# Altium integrated library TI Power Management Linear Regulator Single Channel LDO (400-7500mA).IntLib: 1408 symbols (part 24 of 60)
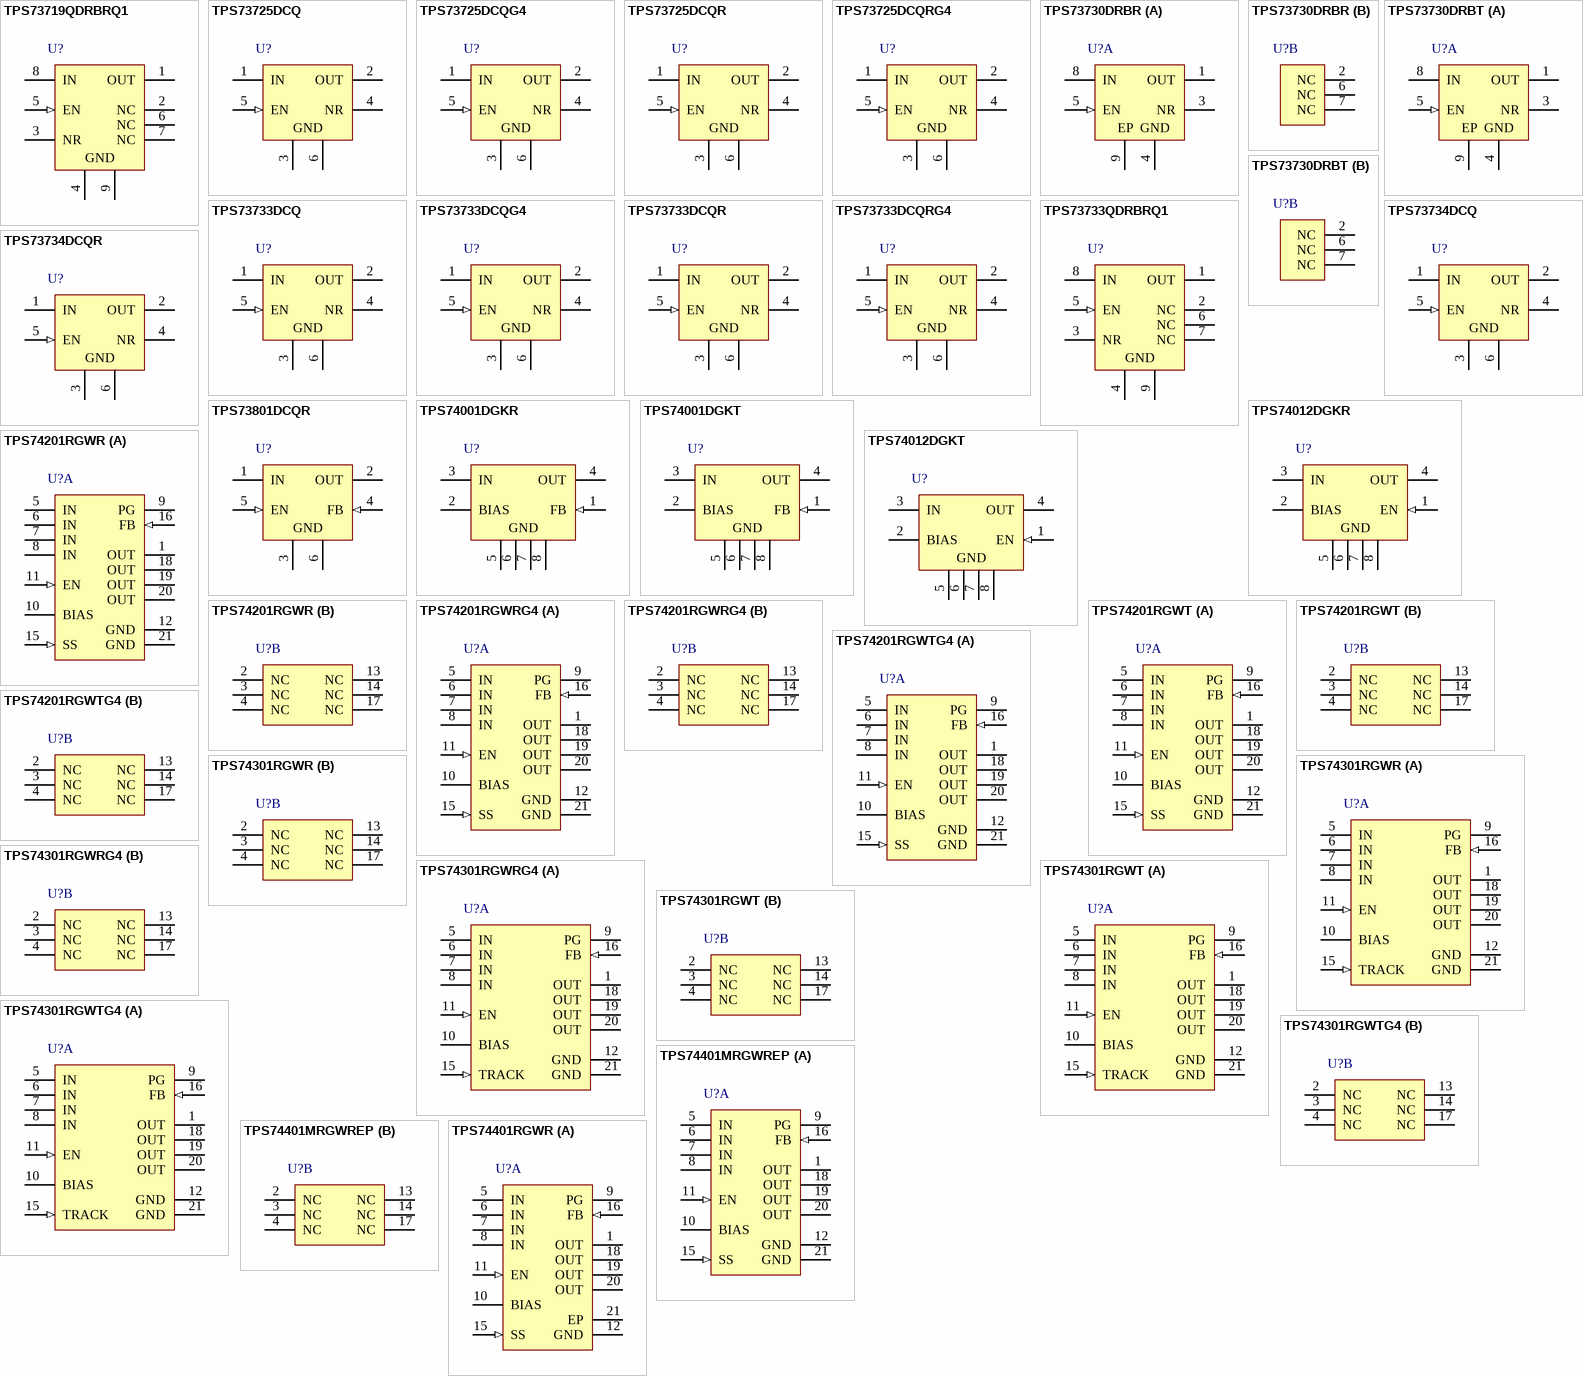
[diagram p73: symbols TPS73719QDRBRQ1 to TPS74401RGWR]

## TPS74301RGWRG4
designator U?
Single Output LDO, 1.5 A, Adjustable 0.8 to 3.6 V Output, 0.8 to 5.5 V Input, with Programmable Powerup Sequencing, 20-pin VQFN (RGW), -40 to 85 degC, Green (RoHS & no Sb/Br); Manufacturer: Texas Instruments; PartNumber: TPS74301RGWRG4; Accuracy(%): 1; Iout(Max)(A): 1.5; Iq(Typ)(mA): 3; Power Good: TRUE; Rating: Catalog; SubFamily: Single Channel LDO; Vdo(Typ)(mV): 55; Vin(Max)(V): 5.5; Vin(Min)(V): 0.8; Vout Adj(Max)(V): 3.6; DatasheetVersion: SBVS065K; PackageReference: RGW20-3150X3150TP; PackageDescription: 20-Pin Plastic Quad Flat No-Pin, 5 x 5 mm Body, 0.65 mm Pitch, 3.15 x 3.15 mm Exposed Pad; Supplier 1: Digi-Key; Supplier Part Number 1: TPS74301RGWRG4-ND; Supplier 2: Newark; Supplier Part Number 2: 04M0271; Supplier 3: Mouser; Supplier Part Number 3: 595-TPS74301RGWRG4; Eco-Plan: Green (RoHS & no Sb/Br); Vout Adj(Min)(V): 0.8; Mounting Technology: Surface Mount; Code_JEDEC: MO-220; ComponentLink1Description: Manufacturer URL; ComponentLink1URL: http://www.ti.com/; ComponentLink2Description: Datasheet; ComponentLink2URL: http://www.ti.com/general/docs/lit/getliterature.tsp?genericPartNumber=TPS74301&fileType=pdf; ComponentLink3Description: Package Specification; ComponentLink3URL: http://www.ti.com/litv/pdf/mpqf122b; ComponentLink4Description: URL Link1; ComponentLink4URL: Samples URL:http://www.ti.com/product/tps74301#samples
footprint TI-RGW20-3150X3150TP_V (QFN, 20-Leads, Body 5x5mm, Pitch 0.65mm, Thermal Pad 3.15x3.15mm)
part A pins: 1 OUT (power) "Regulated output voltage. No capacitor is required on this pin for stability.", 5 IN (power) "Unregulated input to the device.", 6 IN (power) "Unregulated input to the device.", 7 IN (power) "Unregulated input to the device.", 8 IN (power) "Unregulated input to the device.", 9 PG (hiz) "Power-Good (PG) is an open-drain, active-high output that indicates the status of VOUT. When VOUT exceeds the PG trip threshold, the PG pin goes into a high-impedance state. When VOUT is below this threshold the pin is (See Datasheet)", 10 BIAS (power) "Bias input voltage for error amplifier, reference, and internal control circuits.", 11 EN (in) "Enable pin. Driving this pin high enables the regulator. Driving this pin low puts the regulator into shutdown mode. This pin must not be left floating.", 12 GND (power) "Ground", 15 TRACK (in) "Tracking pin. Connect this pin to the center tap of a resistor divider off of an external supply to program the device to track an external supply.", 16 FB (in) "This pin is the feedback connection to the center tap of an external resistor divider network that sets the output voltage. This pin must not be left floating.", 18 OUT (power) "Regulated output voltage. No capacitor is required on this pin for stability.", 19 OUT (power) "Regulated output voltage. No capacitor is required on this pin for stability.", 20 OUT (power) "Regulated output voltage. No capacitor is required on this pin for stability.", 21 GND (power) "Should be soldered to the ground plane for increased thermal performance."
part B pins: 2 NC "No connection. This pin can be left floating or connected to GND to allow better thermal contact to the top-side plane.", 3 NC "No connection. This pin can be left floating or connected to GND to allow better thermal contact to the top-side plane.", 4 NC "No connection. This pin can be left floating or connected to GND to allow better thermal contact to the top-side plane.", 13 NC "No connection. This pin can be left floating or connected to GND to allow better thermal contact to the top-side plane.", 14 NC "No connection. This pin can be left floating or connected to GND to allow better thermal contact to the top-side plane.", 17 NC "No connection. This pin can be left floating or connected to GND to allow better thermal contact to the top-side plane."

## TPS74301RGWT
designator U?
Single Output LDO, 1.5 A, Adjustable 0.8 to 3.6 V Output, 0.8 to 5.5 V Input, with Programmable Powerup Sequencing, 20-pin VQFN (RGW), -40 to 85 degC, Green (RoHS & no Sb/Br); Manufacturer: Texas Instruments; PartNumber: TPS74301RGWT; Accuracy(%): 1; Iout(Max)(A): 1.5; Iq(Typ)(mA): 3; Power Good: TRUE; Rating: Catalog; SubFamily: Single Channel LDO; Vdo(Typ)(mV): 55; Vin(Max)(V): 5.5; Vin(Min)(V): 0.8; Vout Adj(Max)(V): 3.6; DatasheetVersion: SBVS065K; PackageReference: RGW20-3150X3150TP; PackageDescription: 20-Pin Plastic Quad Flat No-Pin, 5 x 5 mm Body, 0.65 mm Pitch, 3.15 x 3.15 mm Exposed Pad; Supplier 1: Digi-Key; Supplier Part Number 1: 296-19892-2-ND; Supplier 2: Digi-Key; Supplier Part Number 2: 296-19892-1-ND; Supplier 3: Digi-Key; Supplier Part Number 3: 296-19892-6-ND; Supplier 4: Farnell; Supplier Part Number 4: 1564915; Supplier 5: Newark; Supplier Part Number 5: 03M1118; Supplier 6: Mouser; Supplier Part Number 6: 595-TPS74301RGWT; Eco-Plan: Green (RoHS & no Sb/Br); Vout Adj(Min)(V): 0.8; Mounting Technology: Surface Mount; Code_JEDEC: MO-220; ComponentLink1Description: Manufacturer URL; ComponentLink1URL: http://www.ti.com/; ComponentLink2Description: Datasheet; ComponentLink2URL: http://www.ti.com/general/docs/lit/getliterature.tsp?genericPartNumber=TPS74301&fileType=pdf; ComponentLink3Description: Package Specification; ComponentLink3URL: http://www.ti.com/litv/pdf/mpqf122b; ComponentLink4Description: URL Link1; ComponentLink4URL: Samples URL:http://www.ti.com/product/tps74301#samples
footprint TI-RGW20-3150X3150TP_V (QFN, 20-Leads, Body 5x5mm, Pitch 0.65mm, Thermal Pad 3.15x3.15mm)
part A pins: 1 OUT (power) "Regulated output voltage. No capacitor is required on this pin for stability.", 5 IN (power) "Unregulated input to the device.", 6 IN (power) "Unregulated input to the device.", 7 IN (power) "Unregulated input to the device.", 8 IN (power) "Unregulated input to the device.", 9 PG (hiz) "Power-Good (PG) is an open-drain, active-high output that indicates the status of VOUT. When VOUT exceeds the PG trip threshold, the PG pin goes into a high-impedance state. When VOUT is below this threshold the pin is (See Datasheet)", 10 BIAS (power) "Bias input voltage for error amplifier, reference, and internal control circuits.", 11 EN (in) "Enable pin. Driving this pin high enables the regulator. Driving this pin low puts the regulator into shutdown mode. This pin must not be left floating.", 12 GND (power) "Ground", 15 TRACK (in) "Tracking pin. Connect this pin to the center tap of a resistor divider off of an external supply to program the device to track an external supply.", 16 FB (in) "This pin is the feedback connection to the center tap of an external resistor divider network that sets the output voltage. This pin must not be left floating.", 18 OUT (power) "Regulated output voltage. No capacitor is required on this pin for stability.", 19 OUT (power) "Regulated output voltage. No capacitor is required on this pin for stability.", 20 OUT (power) "Regulated output voltage. No capacitor is required on this pin for stability.", 21 GND (power) "Should be soldered to the ground plane for increased thermal performance."
part B pins: 2 NC "No connection. This pin can be left floating or connected to GND to allow better thermal contact to the top-side plane.", 3 NC "No connection. This pin can be left floating or connected to GND to allow better thermal contact to the top-side plane.", 4 NC "No connection. This pin can be left floating or connected to GND to allow better thermal contact to the top-side plane.", 13 NC "No connection. This pin can be left floating or connected to GND to allow better thermal contact to the top-side plane.", 14 NC "No connection. This pin can be left floating or connected to GND to allow better thermal contact to the top-side plane.", 17 NC "No connection. This pin can be left floating or connected to GND to allow better thermal contact to the top-side plane."

## TPS74301RGWTG4
designator U?
Single Output LDO, 1.5 A, Adjustable 0.8 to 3.6 V Output, 0.8 to 5.5 V Input, with Programmable Powerup Sequencing, 20-pin VQFN (RGW), -40 to 85 degC, Green (RoHS & no Sb/Br); Manufacturer: Texas Instruments; PartNumber: TPS74301RGWTG4; Accuracy(%): 1; Iout(Max)(A): 1.5; Iq(Typ)(mA): 3; Power Good: TRUE; Rating: Catalog; SubFamily: Single Channel LDO; Vdo(Typ)(mV): 55; Vin(Max)(V): 5.5; Vin(Min)(V): 0.8; Vout Adj(Max)(V): 3.6; DatasheetVersion: SBVS065K; PackageReference: RGW20-3150X3150TP; PackageDescription: 20-Pin Plastic Quad Flat No-Pin, 5 x 5 mm Body, 0.65 mm Pitch, 3.15 x 3.15 mm Exposed Pad; Supplier 1: Digi-Key; Supplier Part Number 1: TPS74301RGWTG4-ND; Supplier 2: Newark; Supplier Part Number 2: 04M0272; Supplier 3: Mouser; Supplier Part Number 3: 595-TPS74301RGWTG4; Eco-Plan: Green (RoHS & no Sb/Br); Vout Adj(Min)(V): 0.8; Mounting Technology: Surface Mount; Code_JEDEC: MO-220; ComponentLink1Description: Manufacturer URL; ComponentLink1URL: http://www.ti.com/; ComponentLink2Description: Datasheet; ComponentLink2URL: http://www.ti.com/general/docs/lit/getliterature.tsp?genericPartNumber=TPS74301&fileType=pdf; ComponentLink3Description: Package Specification; ComponentLink3URL: http://www.ti.com/litv/pdf/mpqf122b; ComponentLink4Description: URL Link1; ComponentLink4URL: Samples URL:http://www.ti.com/product/tps74301#samples
footprint TI-RGW20-3150X3150TP_V (QFN, 20-Leads, Body 5x5mm, Pitch 0.65mm, Thermal Pad 3.15x3.15mm)
part A pins: 1 OUT (power) "Regulated output voltage. No capacitor is required on this pin for stability.", 5 IN (power) "Unregulated input to the device.", 6 IN (power) "Unregulated input to the device.", 7 IN (power) "Unregulated input to the device.", 8 IN (power) "Unregulated input to the device.", 9 PG (hiz) "Power-Good (PG) is an open-drain, active-high output that indicates the status of VOUT. When VOUT exceeds the PG trip threshold, the PG pin goes into a high-impedance state. When VOUT is below this threshold the pin is (See Datasheet)", 10 BIAS (power) "Bias input voltage for error amplifier, reference, and internal control circuits.", 11 EN (in) "Enable pin. Driving this pin high enables the regulator. Driving this pin low puts the regulator into shutdown mode. This pin must not be left floating.", 12 GND (power) "Ground", 15 TRACK (in) "Tracking pin. Connect this pin to the center tap of a resistor divider off of an external supply to program the device to track an external supply.", 16 FB (in) "This pin is the feedback connection to the center tap of an external resistor divider network that sets the output voltage. This pin must not be left floating.", 18 OUT (power) "Regulated output voltage. No capacitor is required on this pin for stability.", 19 OUT (power) "Regulated output voltage. No capacitor is required on this pin for stability.", 20 OUT (power) "Regulated output voltage. No capacitor is required on this pin for stability.", 21 GND (power) "Should be soldered to the ground plane for increased thermal performance."
part B pins: 2 NC "No connection. This pin can be left floating or connected to GND to allow better thermal contact to the top-side plane.", 3 NC "No connection. This pin can be left floating or connected to GND to allow better thermal contact to the top-side plane.", 4 NC "No connection. This pin can be left floating or connected to GND to allow better thermal contact to the top-side plane.", 13 NC "No connection. This pin can be left floating or connected to GND to allow better thermal contact to the top-side plane.", 14 NC "No connection. This pin can be left floating or connected to GND to allow better thermal contact to the top-side plane.", 17 NC "No connection. This pin can be left floating or connected to GND to allow better thermal contact to the top-side plane."

## TPS74401MRGWREP
designator U?
Single Output Fast Transient Response LDO, 3 A, Adjustable 0.8 to 3.6 V Output, 0.8 to 5.5 V Input, with Programmable Soft Start, 20-pin VQFN (RGW), -55 to 125 degC, Green (RoHS & no Sb/Br); Manufacturer: Texas Instruments; PartNumber: TPS74401MRGWREP; Accuracy(%): 1; Iout(Max)(A): 3; Power Good: TRUE; Rating: HiRel Enhanced Product; SubFamily: Single Channel LDO; Vdo(Typ)(mV): 115; Vin(Max)(V): 5.5; Vin(Min)(V): 0.8; Vout Adj(Max)(V): 3.6; DatasheetVersion: SBVS122B; PackageReference: RGW20-3150X3150TP; PackageDescription: 20-Pin Plastic Quad Flat No-Pin, 5 x 5 mm Body, 0.65 mm Pitch, 3.15 x 3.15 mm Exposed Pad; Supplier 1: Digi-Key; Supplier Part Number 1: 296-27227-2-ND; Supplier 2: Digi-Key; Supplier Part Number 2: 296-27227-1-ND; Supplier 3: Digi-Key; Supplier Part Number 3: 296-27227-6-ND; Supplier 4: Newark; Supplier Part Number 4: 72R6680; Supplier 5: Mouser; Supplier Part Number 5: 595-TPS74401MRGWREP; Eco-Plan: Green (RoHS & no Sb/Br); Iq(Typ)(mA): 3; Vout Adj(Min)(V): 0.8; Mounting Technology: Surface Mount; Code_JEDEC: MO-220; ComponentLink1Description: Manufacturer URL; ComponentLink1URL: http://www.ti.com/; ComponentLink2Description: Datasheet; ComponentLink2URL: http://www.ti.com/general/docs/lit/getliterature.tsp?genericPartNumber=TPS74401-EP&fileType=pdf; ComponentLink3Description: Package Specification; ComponentLink3URL: http://www.ti.com/litv/pdf/mpqf122b
footprint TI-RGW20-3150X3150TP_V (QFN, 20-Leads, Body 5x5mm, Pitch 0.65mm, Thermal Pad 3.15x3.15mm)
part A pins: 1 OUT (power) "Regulated output voltage. No capacitor is required on this pin for stability.", 5 IN (power) "Unregulated input to the device.", 6 IN (power) "Unregulated input to the device.", 7 IN (power) "Unregulated input to the device.", 8 IN (power) "Unregulated input to the device.", 9 PG (hiz) "Power-Good (PG) is an open-drain, active-high output that indicates the status of VOUT. When VOUT exceeds the PG trip threshold, the PG pin goes into a high-impedance state. When VOUT is below this threshold the pin is (See Datasheet)", 10 BIAS (power) "Bias input voltage for error amplifier, reference, and internal control circuits.", 11 EN (in) "Enable pin. Driving this pin high enables the regulator. Driving this pin low puts the regulator into shutdown mode. This pin must not be left floating.", 12 GND (power) "Ground", 15 SS (in) "Soft-Start pin. A capacitor connected on this pin to ground sets the start-up time. If this pin is left floating, the regulator output soft-start ramp time is typically 100us.", 16 FB (in) "This pin is the feedback connection to the center tap of an external resistor divider network that sets the output voltage. This pin must not be left floating.", 18 OUT (power) "Regulated output voltage. No capacitor is required on this pin for stability.", 19 OUT (power) "Regulated output voltage. No capacitor is required on this pin for stability.", 20 OUT (power) "Regulated output voltage. No capacitor is required on this pin for stability.", 21 GND (power) "Should be soldered to the ground plane for increased thermal performance."
part B pins: 2 NC "No connection. This pin can be left floating or connected to GND to allow better thermal contact to the top-side plane.", 3 NC "No connection. This pin can be left floating or connected to GND to allow better thermal contact to the top-side plane.", 4 NC "No connection. This pin can be left floating or connected to GND to allow better thermal contact to the top-side plane.", 13 NC "No connection. This pin can be left floating or connected to GND to allow better thermal contact to the top-side plane.", 14 NC "No connection. This pin can be left floating or connected to GND to allow better thermal contact to the top-side plane.", 17 NC "No connection. This pin can be left floating or connected to GND to allow better thermal contact to the top-side plane."

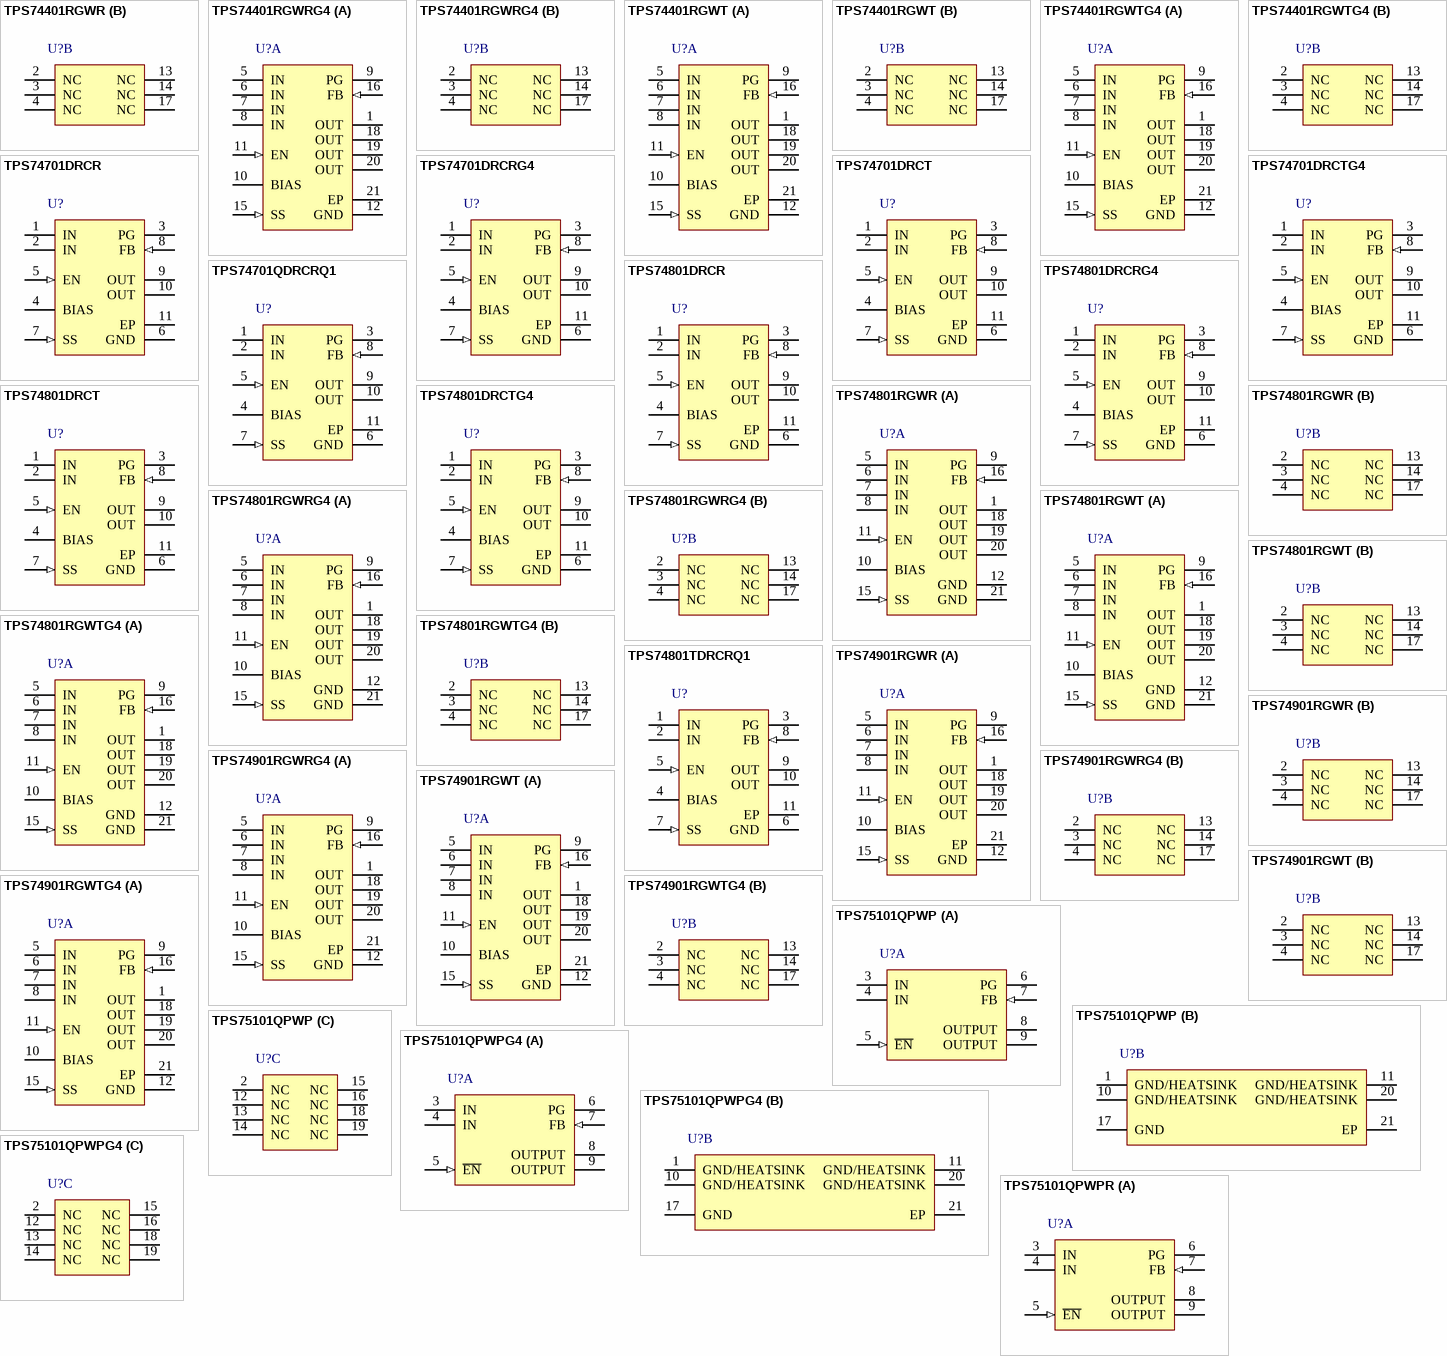
[diagram p16: symbols TPS74401RGWR to TPS75101QPWPR]

## TPS74401RGWR
designator U?
Single Output Fast Transient Response LDO, 3 A, Adjustable 0.8 to 3.6 V Output, 0.8 to 5.5 V Input, with Programmable Soft Start, 20-pin VQFN (RGW), -40 to 125 degC, Green (RoHS & no Sb/Br); Manufacturer: Texas Instruments; PartNumber: TPS74401RGWR; Accuracy(%): 1; Iout(Max)(A): 3; Power Good: TRUE; Rating: Catalog; SubFamily: Single Channel LDO; Vdo(Typ)(mV): 115; Vin(Max)(V): 5.5; Vin(Min)(V): 0.8; Vout Adj(Max)(V): 3.6; DatasheetVersion: SBVS066M; PackageReference: RGW20-3150X3150TP; PackageDescription: 20-Pin Plastic Quad Flat No-Pin, 5 x 5 mm Body, 0.65 mm Pitch, 3.15 x 3.15 mm Exposed Pad; Supplier 1: Digi-Key; Supplier Part Number 1: 296-27070-2-ND; Supplier 2: Digi-Key; Supplier Part Number 2: 296-27070-1-ND; Supplier 3: Digi-Key; Supplier Part Number 3: 296-27070-6-ND; Supplier 4: Newark; Supplier Part Number 4: 03M1119; Supplier 5: Mouser; Supplier Part Number 5: 595-TPS74401RGWR; Eco-Plan: Green (RoHS & no Sb/Br); Iq(Typ)(mA): 3; Vout Adj(Min)(V): 0.8; Mounting Technology: Surface Mount; Code_JEDEC: MO-220; ComponentLink1Description: Manufacturer URL; ComponentLink1URL: http://www.ti.com/; ComponentLink2Description: Datasheet; ComponentLink2URL: http://www.ti.com/general/docs/lit/getliterature.tsp?genericPartNumber=TPS74401&fileType=pdf; ComponentLink3Description: Package Specification; ComponentLink3URL: http://www.ti.com/litv/pdf/mpqf122b
footprint TI-RGW20-3150X3150TP_V (QFN, 20-Leads, Body 5x5mm, Pitch 0.65mm, Thermal Pad 3.15x3.15mm)
part A pins: 1 OUT (power) "Regulated output voltage. No capacitor is required on this pin for stability.", 5 IN (power) "Unregulated input to the device.", 6 IN (power) "Unregulated input to the device.", 7 IN (power) "Unregulated input to the device.", 8 IN (power) "Unregulated input to the device.", 9 PG (hiz) "Power-Good (PG) is an open-drain, active-high output that indicates the status of VOUT. When VOUT exceeds the PG trip threshold, the PG pin goes into a high-impedance state. When VOUT is below this threshold the pin is (See Datasheet)", 10 BIAS (power) "Bias input voltage for error amplifier, reference, and internal control circuits.", 11 EN (in) "Enable pin. Driving this pin high enables the regulator. Driving this pin low puts the regulator into shutdown mode. This pin must not be left floating.", 12 GND (power) "Ground", 15 SS (in) "Soft-Start pin. A capacitor connected on this pin to ground sets the start-up time. If this pin is left floating, the regulator output soft-start ramp time is typically 100us.", 16 FB (in) "This pin is the feedback connection to the center tap of an external resistor divider network that sets the output voltage. This pin must not be left floating.", 18 OUT (power) "Regulated output voltage. No capacitor is required on this pin for stability.", 19 OUT (power) "Regulated output voltage. No capacitor is required on this pin for stability.", 20 OUT (power) "Regulated output voltage. No capacitor is required on this pin for stability.", 21 EP (power) "Should be soldered to the ground plane for increased thermal performance."
part B pins: 2 NC "No connection. This pin can be left floating or connected to GND to allow better thermal contact to the top-side plane.", 3 NC "No connection. This pin can be left floating or connected to GND to allow better thermal contact to the top-side plane.", 4 NC "No connection. This pin can be left floating or connected to GND to allow better thermal contact to the top-side plane.", 13 NC "No connection. This pin can be left floating or connected to GND to allow better thermal contact to the top-side plane.", 14 NC "No connection. This pin can be left floating or connected to GND to allow better thermal contact to the top-side plane.", 17 NC "No connection. This pin can be left floating or connected to GND to allow better thermal contact to the top-side plane."

## TPS74401RGWRG4
designator U?
Single Output Fast Transient Response LDO, 3 A, Adjustable 0.8 to 3.6 V Output, 0.8 to 5.5 V Input, with Programmable Soft Start, 20-pin VQFN (RGW), -40 to 125 degC, Green (RoHS & no Sb/Br); Manufacturer: Texas Instruments; PartNumber: TPS74401RGWRG4; Accuracy(%): 1; Iout(Max)(A): 3; Power Good: TRUE; Rating: Catalog; SubFamily: Single Channel LDO; Vdo(Typ)(mV): 115; Vin(Max)(V): 5.5; Vin(Min)(V): 0.8; Vout Adj(Max)(V): 3.6; DatasheetVersion: SBVS066M; PackageReference: RGW20-3150X3150TP; PackageDescription: 20-Pin Plastic Quad Flat No-Pin, 5 x 5 mm Body, 0.65 mm Pitch, 3.15 x 3.15 mm Exposed Pad; Supplier 1: Digi-Key; Supplier Part Number 1: TPS74401RGWRG4-ND; Supplier 2: Newark; Supplier Part Number 2: 04M0273; Supplier 3: Mouser; Supplier Part Number 3: 595-TPS74401RGWRG4; Eco-Plan: Green (RoHS & no Sb/Br); Iq(Typ)(mA): 3; Vout Adj(Min)(V): 0.8; Mounting Technology: Surface Mount; Code_JEDEC: MO-220; ComponentLink1Description: Manufacturer URL; ComponentLink1URL: http://www.ti.com/; ComponentLink2Description: Datasheet; ComponentLink2URL: http://www.ti.com/general/docs/lit/getliterature.tsp?genericPartNumber=TPS74401&fileType=pdf; ComponentLink3Description: Package Specification; ComponentLink3URL: http://www.ti.com/litv/pdf/mpqf122b
footprint TI-RGW20-3150X3150TP_V (QFN, 20-Leads, Body 5x5mm, Pitch 0.65mm, Thermal Pad 3.15x3.15mm)
part A pins: 1 OUT (power) "Regulated output voltage. No capacitor is required on this pin for stability.", 5 IN (power) "Unregulated input to the device.", 6 IN (power) "Unregulated input to the device.", 7 IN (power) "Unregulated input to the device.", 8 IN (power) "Unregulated input to the device.", 9 PG (hiz) "Power-Good (PG) is an open-drain, active-high output that indicates the status of VOUT. When VOUT exceeds the PG trip threshold, the PG pin goes into a high-impedance state. When VOUT is below this threshold the pin is (See Datasheet)", 10 BIAS (power) "Bias input voltage for error amplifier, reference, and internal control circuits.", 11 EN (in) "Enable pin. Driving this pin high enables the regulator. Driving this pin low puts the regulator into shutdown mode. This pin must not be left floating.", 12 GND (power) "Ground", 15 SS (in) "Soft-Start pin. A capacitor connected on this pin to ground sets the start-up time. If this pin is left floating, the regulator output soft-start ramp time is typically 100us.", 16 FB (in) "This pin is the feedback connection to the center tap of an external resistor divider network that sets the output voltage. This pin must not be left floating.", 18 OUT (power) "Regulated output voltage. No capacitor is required on this pin for stability.", 19 OUT (power) "Regulated output voltage. No capacitor is required on this pin for stability.", 20 OUT (power) "Regulated output voltage. No capacitor is required on this pin for stability.", 21 EP (power) "Should be soldered to the ground plane for increased thermal performance."
part B pins: 2 NC "No connection. This pin can be left floating or connected to GND to allow better thermal contact to the top-side plane.", 3 NC "No connection. This pin can be left floating or connected to GND to allow better thermal contact to the top-side plane.", 4 NC "No connection. This pin can be left floating or connected to GND to allow better thermal contact to the top-side plane.", 13 NC "No connection. This pin can be left floating or connected to GND to allow better thermal contact to the top-side plane.", 14 NC "No connection. This pin can be left floating or connected to GND to allow better thermal contact to the top-side plane.", 17 NC "No connection. This pin can be left floating or connected to GND to allow better thermal contact to the top-side plane."

## TPS74401RGWT
designator U?
Single Output Fast Transient Response LDO, 3 A, Adjustable 0.8 to 3.6 V Output, 0.8 to 5.5 V Input, with Programmable Soft Start, 20-pin VQFN (RGW), -40 to 125 degC, Green (RoHS & no Sb/Br); Manufacturer: Texas Instruments; PartNumber: TPS74401RGWT; Accuracy(%): 1; Iout(Max)(A): 3; Power Good: TRUE; Rating: Catalog; SubFamily: Single Channel LDO; Vdo(Typ)(mV): 115; Vin(Max)(V): 5.5; Vin(Min)(V): 0.8; Vout Adj(Max)(V): 3.6; DatasheetVersion: SBVS066M; PackageReference: RGW20-3150X3150TP; PackageDescription: 20-Pin Plastic Quad Flat No-Pin, 5 x 5 mm Body, 0.65 mm Pitch, 3.15 x 3.15 mm Exposed Pad; Supplier 1: Digi-Key; Supplier Part Number 1: 296-19893-2-ND; Supplier 2: Digi-Key; Supplier Part Number 2: 296-19893-1-ND; Supplier 3: Digi-Key; Supplier Part Number 3: 296-19893-6-ND; Supplier 4: Farnell; Supplier Part Number 4: 1564916RL; Supplier 5: Farnell; Supplier Part Number 5: 1564916; Supplier 6: Newark; Supplier Part Number 6: 03M1120; Supplier 7: Mouser; Supplier Part Number 7: 595-TPS74401RGWT; Eco-Plan: Green (RoHS & no Sb/Br); Iq(Typ)(mA): 3; Vout Adj(Min)(V): 0.8; Mounting Technology: Surface Mount; Code_JEDEC: MO-220; ComponentLink1Description: Manufacturer URL; ComponentLink1URL: http://www.ti.com/; ComponentLink2Description: Datasheet; ComponentLink2URL: http://www.ti.com/general/docs/lit/getliterature.tsp?genericPartNumber=TPS74401&fileType=pdf; ComponentLink3Description: Package Specification; ComponentLink3URL: http://www.ti.com/litv/pdf/mpqf122b
footprint TI-RGW20-3150X3150TP_V (QFN, 20-Leads, Body 5x5mm, Pitch 0.65mm, Thermal Pad 3.15x3.15mm)
part A pins: 1 OUT (power) "Regulated output voltage. No capacitor is required on this pin for stability.", 5 IN (power) "Unregulated input to the device.", 6 IN (power) "Unregulated input to the device.", 7 IN (power) "Unregulated input to the device.", 8 IN (power) "Unregulated input to the device.", 9 PG (hiz) "Power-Good (PG) is an open-drain, active-high output that indicates the status of VOUT. When VOUT exceeds the PG trip threshold, the PG pin goes into a high-impedance state. When VOUT is below this threshold the pin is (See Datasheet)", 10 BIAS (power) "Bias input voltage for error amplifier, reference, and internal control circuits.", 11 EN (in) "Enable pin. Driving this pin high enables the regulator. Driving this pin low puts the regulator into shutdown mode. This pin must not be left floating.", 12 GND (power) "Ground", 15 SS (in) "Soft-Start pin. A capacitor connected on this pin to ground sets the start-up time. If this pin is left floating, the regulator output soft-start ramp time is typically 100us.", 16 FB (in) "This pin is the feedback connection to the center tap of an external resistor divider network that sets the output voltage. This pin must not be left floating.", 18 OUT (power) "Regulated output voltage. No capacitor is required on this pin for stability.", 19 OUT (power) "Regulated output voltage. No capacitor is required on this pin for stability.", 20 OUT (power) "Regulated output voltage. No capacitor is required on this pin for stability.", 21 EP (power) "Should be soldered to the ground plane for increased thermal performance."
part B pins: 2 NC "No connection. This pin can be left floating or connected to GND to allow better thermal contact to the top-side plane.", 3 NC "No connection. This pin can be left floating or connected to GND to allow better thermal contact to the top-side plane.", 4 NC "No connection. This pin can be left floating or connected to GND to allow better thermal contact to the top-side plane.", 13 NC "No connection. This pin can be left floating or connected to GND to allow better thermal contact to the top-side plane.", 14 NC "No connection. This pin can be left floating or connected to GND to allow better thermal contact to the top-side plane.", 17 NC "No connection. This pin can be left floating or connected to GND to allow better thermal contact to the top-side plane."

## TPS74401RGWTG4
designator U?
Single Output Fast Transient Response LDO, 3 A, Adjustable 0.8 to 3.6 V Output, 0.8 to 5.5 V Input, with Programmable Soft Start, 20-pin VQFN (RGW), -40 to 125 degC, Green (RoHS & no Sb/Br); Manufacturer: Texas Instruments; PartNumber: TPS74401RGWTG4; Accuracy(%): 1; Iout(Max)(A): 3; Power Good: TRUE; Rating: Catalog; SubFamily: Single Channel LDO; Vdo(Typ)(mV): 115; Vin(Max)(V): 5.5; Vin(Min)(V): 0.8; Vout Adj(Max)(V): 3.6; DatasheetVersion: SBVS066M; PackageReference: RGW20-3150X3150TP; PackageDescription: 20-Pin Plastic Quad Flat No-Pin, 5 x 5 mm Body, 0.65 mm Pitch, 3.15 x 3.15 mm Exposed Pad; Supplier 1: Digi-Key; Supplier Part Number 1: TPS74401RGWTG4-ND; Supplier 2: Newark; Supplier Part Number 2: 04M0274; Supplier 3: Mouser; Supplier Part Number 3: 595-TPS74401RGWTG4; Eco-Plan: Green (RoHS & no Sb/Br); Iq(Typ)(mA): 3; Vout Adj(Min)(V): 0.8; Mounting Technology: Surface Mount; Code_JEDEC: MO-220; ComponentLink1Description: Manufacturer URL; ComponentLink1URL: http://www.ti.com/; ComponentLink2Description: Datasheet; ComponentLink2URL: http://www.ti.com/general/docs/lit/getliterature.tsp?genericPartNumber=TPS74401&fileType=pdf; ComponentLink3Description: Package Specification; ComponentLink3URL: http://www.ti.com/litv/pdf/mpqf122b
footprint TI-RGW20-3150X3150TP_V (QFN, 20-Leads, Body 5x5mm, Pitch 0.65mm, Thermal Pad 3.15x3.15mm)
part A pins: 1 OUT (power) "Regulated output voltage. No capacitor is required on this pin for stability.", 5 IN (power) "Unregulated input to the device.", 6 IN (power) "Unregulated input to the device.", 7 IN (power) "Unregulated input to the device.", 8 IN (power) "Unregulated input to the device.", 9 PG (hiz) "Power-Good (PG) is an open-drain, active-high output that indicates the status of VOUT. When VOUT exceeds the PG trip threshold, the PG pin goes into a high-impedance state. When VOUT is below this threshold the pin is (See Datasheet)", 10 BIAS (power) "Bias input voltage for error amplifier, reference, and internal control circuits.", 11 EN (in) "Enable pin. Driving this pin high enables the regulator. Driving this pin low puts the regulator into shutdown mode. This pin must not be left floating.", 12 GND (power) "Ground", 15 SS (in) "Soft-Start pin. A capacitor connected on this pin to ground sets the start-up time. If this pin is left floating, the regulator output soft-start ramp time is typically 100us.", 16 FB (in) "This pin is the feedback connection to the center tap of an external resistor divider network that sets the output voltage. This pin must not be left floating.", 18 OUT (power) "Regulated output voltage. No capacitor is required on this pin for stability.", 19 OUT (power) "Regulated output voltage. No capacitor is required on this pin for stability.", 20 OUT (power) "Regulated output voltage. No capacitor is required on this pin for stability.", 21 EP (power) "Should be soldered to the ground plane for increased thermal performance."
part B pins: 2 NC "No connection. This pin can be left floating or connected to GND to allow better thermal contact to the top-side plane.", 3 NC "No connection. This pin can be left floating or connected to GND to allow better thermal contact to the top-side plane.", 4 NC "No connection. This pin can be left floating or connected to GND to allow better thermal contact to the top-side plane.", 13 NC "No connection. This pin can be left floating or connected to GND to allow better thermal contact to the top-side plane.", 14 NC "No connection. This pin can be left floating or connected to GND to allow better thermal contact to the top-side plane.", 17 NC "No connection. This pin can be left floating or connected to GND to allow better thermal contact to the top-side plane."

## TPS74701DRCR
designator U?
Single Output LDO, 500 mA, Adjustable 0.8 to 3.6 V Output, 0.8 to 5.5 V Input, with Programmable Soft Start, 10-pin SON (DRC), -40 to 125 degC, Green (RoHS & no Sb/Br); Manufacturer: Texas Instruments; PartNumber: TPS74701DRCR; Accuracy(%): 2; Iout(Max)(A): 0.5; Iq(Typ)(mA): 1; Power Good: TRUE; Rating: Catalog; SubFamily: Single Channel LDO; Vdo(Typ)(mV): 50; Vin(Max)(V): 5.5; Vin(Min)(V): 0.8; Vout Adj(Max)(V): 3.6; DatasheetVersion: SBVS099F; PackageVersion: 4204102-3/L; PackageReference: DRC10-2400X1650TP; PackageDescription: 10-Pin Plastic Small Outline, Body 3 x 3 mm, Pitch 0.5 mm; Supplier 1: Digi-Key; Supplier Part Number 1: 296-22987-2-ND; Supplier 2: Digi-Key; Supplier Part Number 2: 296-22987-1-ND; Supplier 3: Digi-Key; Supplier Part Number 3: 296-22987-6-ND; Supplier 4: Newark; Supplier Part Number 4: 72M4783; Supplier 5: Mouser; Supplier Part Number 5: 595-TPS74701DRCR; Eco-Plan: Green (RoHS & no Sb/Br); Vout Adj(Min)(V): 0.8; Mounting Technology: Surface Mount; ComponentLink1Description: Manufacturer URL; ComponentLink1URL: http://www.ti.com/; ComponentLink2Description: Datasheet; ComponentLink2URL: http://www.ti.com/general/docs/lit/getliterature.tsp?genericPartNumber=TPS74701&fileType=pdf; ComponentLink3Description: Package Specification; ComponentLink3URL: http://www.ti.com/litv/pdf/mpds117k; ComponentLink4Description: URL Link1; ComponentLink4URL: Samples URL:http://www.ti.com/product/tps74701#samples
footprint TI-DRC10-2400X1650TP_V (SON, 10-Leads, Body 3x3mm, Pitch 0.5mm, Thermal Pad 3x1.65mm)
pins: 1 IN (power) "Input to the device.", 2 IN (power) "Input to the device.", 3 PG (hiz) "Power Good pin. An open-drain, active-high output that indicates the status of VOUT. When VOUT exceeds the PG trip threshold, the PG pin goes into a high-impedance state. When VOUT is below this threshold the pin is driven (See Datasheet)", 4 BIAS (power) "Bias input voltage for error amplifier, reference, and internal control circuits.", 5 EN (in) "Enable pin. Driving this pin high enables the regulator. Driving this pin low puts the regulator into shutdown mode. This pin must not be left unconnected.", 6 GND (power) "Ground", 7 SS (in) "Soft-Start pin. A capacitor connected on this pin to ground sets the start-up time. If this pin is left unconnected, the regulator output soft-start ramp time is typically 200us.", 8 FB (in) "Feedback pin. The feedback connection to the center tap of an external resistor divider network that sets the output voltage. This pin must not be left floating.", 9 OUT (power) "Regulated output voltage. A small capacitor (total typical capacitance >= 2.2uF, ceramic) is needed from this pin to ground to assure stability.", 10 OUT (power) "Regulated output voltage. A small capacitor (total typical capacitance >= 2.2uF, ceramic) is needed from this pin to ground to assure stability.", 11 EP (power) "Should be soldered to the ground plane for increased thermal performance."

## TPS74701DRCRG4
designator U?
Single Output LDO, 500 mA, Adjustable 0.8 to 3.6 V Output, 0.8 to 5.5 V Input, with Programmable Soft Start, 10-pin SON (DRC), -40 to 125 degC, Green (RoHS & no Sb/Br); Manufacturer: Texas Instruments; PartNumber: TPS74701DRCRG4; Accuracy(%): 2; Iout(Max)(A): 0.5; Iq(Typ)(mA): 1; Power Good: TRUE; Rating: Catalog; SubFamily: Single Channel LDO; Vdo(Typ)(mV): 50; Vin(Max)(V): 5.5; Vin(Min)(V): 0.8; Vout Adj(Max)(V): 3.6; DatasheetVersion: SBVS099F; PackageVersion: 4204102-3/L; PackageReference: DRC10-2400X1650TP; PackageDescription: 10-Pin Plastic Small Outline, Body 3 x 3 mm, Pitch 0.5 mm; Supplier 1: Digi-Key; Supplier Part Number 1: TPS74701DRCRG4-ND; Supplier 2: Newark; Supplier Part Number 2: 95M0112; Supplier 3: Mouser; Supplier Part Number 3: 595-TPS74701DRCRG4; Eco-Plan: Green (RoHS & no Sb/Br); Vout Adj(Min)(V): 0.8; Mounting Technology: Surface Mount; ComponentLink1Description: Manufacturer URL; ComponentLink1URL: http://www.ti.com/; ComponentLink2Description: Datasheet; ComponentLink2URL: http://www.ti.com/general/docs/lit/getliterature.tsp?genericPartNumber=TPS74701&fileType=pdf; ComponentLink3Description: Package Specification; ComponentLink3URL: http://www.ti.com/litv/pdf/mpds117k; ComponentLink4Description: URL Link1; ComponentLink4URL: Samples URL:http://www.ti.com/product/tps74701#samples
footprint TI-DRC10-2400X1650TP_V (SON, 10-Leads, Body 3x3mm, Pitch 0.5mm, Thermal Pad 3x1.65mm)
pins: 1 IN (power) "Input to the device.", 2 IN (power) "Input to the device.", 3 PG (hiz) "Power Good pin. An open-drain, active-high output that indicates the status of VOUT. When VOUT exceeds the PG trip threshold, the PG pin goes into a high-impedance state. When VOUT is below this threshold the pin is driven (See Datasheet)", 4 BIAS (power) "Bias input voltage for error amplifier, reference, and internal control circuits.", 5 EN (in) "Enable pin. Driving this pin high enables the regulator. Driving this pin low puts the regulator into shutdown mode. This pin must not be left unconnected.", 6 GND (power) "Ground", 7 SS (in) "Soft-Start pin. A capacitor connected on this pin to ground sets the start-up time. If this pin is left unconnected, the regulator output soft-start ramp time is typically 200us.", 8 FB (in) "Feedback pin. The feedback connection to the center tap of an external resistor divider network that sets the output voltage. This pin must not be left floating.", 9 OUT (power) "Regulated output voltage. A small capacitor (total typical capacitance >= 2.2uF, ceramic) is needed from this pin to ground to assure stability.", 10 OUT (power) "Regulated output voltage. A small capacitor (total typical capacitance >= 2.2uF, ceramic) is needed from this pin to ground to assure stability.", 11 EP (power) "Should be soldered to the ground plane for increased thermal performance."

## TPS74701DRCT
designator U?
Single Output LDO, 500 mA, Adjustable 0.8 to 3.6 V Output, 0.8 to 5.5 V Input, with Programmable Soft Start, 10-pin SON (DRC), -40 to 125 degC, Green (RoHS & no Sb/Br); Manufacturer: Texas Instruments; PartNumber: TPS74701DRCT; Accuracy(%): 2; Iout(Max)(A): 0.5; Iq(Typ)(mA): 1; Power Good: TRUE; Rating: Catalog; SubFamily: Single Channel LDO; Vdo(Typ)(mV): 50; Vin(Max)(V): 5.5; Vin(Min)(V): 0.8; Vout Adj(Max)(V): 3.6; DatasheetVersion: SBVS099F; PackageVersion: 4204102-3/L; PackageReference: DRC10-2400X1650TP; PackageDescription: 10-Pin Plastic Small Outline, Body 3 x 3 mm, Pitch 0.5 mm; Supplier 1: Digi-Key; Supplier Part Number 1: 296-27071-2-ND; Supplier 2: Digi-Key; Supplier Part Number 2: 296-27071-1-ND; Supplier 3: Digi-Key; Supplier Part Number 3: 296-27071-6-ND; Supplier 4: Farnell; Supplier Part Number 4: 2075422; Supplier 5: Newark; Supplier Part Number 5: 72M4784; Supplier 6: Mouser; Supplier Part Number 6: 595-TPS74701DRCT; Eco-Plan: Green (RoHS & no Sb/Br); Vout Adj(Min)(V): 0.8; Mounting Technology: Surface Mount; ComponentLink1Description: Manufacturer URL; ComponentLink1URL: http://www.ti.com/; ComponentLink2Description: Datasheet; ComponentLink2URL: http://www.ti.com/general/docs/lit/getliterature.tsp?genericPartNumber=TPS74701&fileType=pdf; ComponentLink3Description: Package Specification; ComponentLink3URL: http://www.ti.com/litv/pdf/mpds117k; ComponentLink4Description: URL Link1; ComponentLink4URL: Samples URL:http://www.ti.com/product/tps74701#samples
footprint TI-DRC10-2400X1650TP_V (SON, 10-Leads, Body 3x3mm, Pitch 0.5mm, Thermal Pad 3x1.65mm)
pins: 1 IN (power) "Input to the device.", 2 IN (power) "Input to the device.", 3 PG (hiz) "Power Good pin. An open-drain, active-high output that indicates the status of VOUT. When VOUT exceeds the PG trip threshold, the PG pin goes into a high-impedance state. When VOUT is below this threshold the pin is driven (See Datasheet)", 4 BIAS (power) "Bias input voltage for error amplifier, reference, and internal control circuits.", 5 EN (in) "Enable pin. Driving this pin high enables the regulator. Driving this pin low puts the regulator into shutdown mode. This pin must not be left unconnected.", 6 GND (power) "Ground", 7 SS (in) "Soft-Start pin. A capacitor connected on this pin to ground sets the start-up time. If this pin is left unconnected, the regulator output soft-start ramp time is typically 200us.", 8 FB (in) "Feedback pin. The feedback connection to the center tap of an external resistor divider network that sets the output voltage. This pin must not be left floating.", 9 OUT (power) "Regulated output voltage. A small capacitor (total typical capacitance >= 2.2uF, ceramic) is needed from this pin to ground to assure stability.", 10 OUT (power) "Regulated output voltage. A small capacitor (total typical capacitance >= 2.2uF, ceramic) is needed from this pin to ground to assure stability.", 11 EP (power) "Should be soldered to the ground plane for increased thermal performance."

## TPS74701DRCTG4
designator U?
Single Output LDO, 500 mA, Adjustable 0.8 to 3.6 V Output, 0.8 to 5.5 V Input, with Programmable Soft Start, 10-pin SON (DRC), -40 to 125 degC, Green (RoHS & no Sb/Br); Manufacturer: Texas Instruments; PartNumber: TPS74701DRCTG4; Accuracy(%): 2; Iout(Max)(A): 0.5; Iq(Typ)(mA): 1; Power Good: TRUE; Rating: Catalog; SubFamily: Single Channel LDO; Vdo(Typ)(mV): 50; Vin(Max)(V): 5.5; Vin(Min)(V): 0.8; Vout Adj(Max)(V): 3.6; DatasheetVersion: SBVS099F; PackageVersion: 4204102-3/L; PackageReference: DRC10-2400X1650TP; PackageDescription: 10-Pin Plastic Small Outline, Body 3 x 3 mm, Pitch 0.5 mm; Supplier 1: Digi-Key; Supplier Part Number 1: TPS74701DRCTG4-ND; Supplier 2: Mouser; Supplier Part Number 2: 595-TPS74701DRCTG4; Eco-Plan: Green (RoHS & no Sb/Br); Vout Adj(Min)(V): 0.8; Mounting Technology: Surface Mount; ComponentLink1Description: Manufacturer URL; ComponentLink1URL: http://www.ti.com/; ComponentLink2Description: Datasheet; ComponentLink2URL: http://www.ti.com/general/docs/lit/getliterature.tsp?genericPartNumber=TPS74701&fileType=pdf; ComponentLink3Description: Package Specification; ComponentLink3URL: http://www.ti.com/litv/pdf/mpds117k; ComponentLink4Description: URL Link1; ComponentLink4URL: Samples URL:http://www.ti.com/product/tps74701#samples
footprint TI-DRC10-2400X1650TP_V (SON, 10-Leads, Body 3x3mm, Pitch 0.5mm, Thermal Pad 3x1.65mm)
pins: 1 IN (power) "Input to the device.", 2 IN (power) "Input to the device.", 3 PG (hiz) "Power Good pin. An open-drain, active-high output that indicates the status of VOUT. When VOUT exceeds the PG trip threshold, the PG pin goes into a high-impedance state. When VOUT is below this threshold the pin is driven (See Datasheet)", 4 BIAS (power) "Bias input voltage for error amplifier, reference, and internal control circuits.", 5 EN (in) "Enable pin. Driving this pin high enables the regulator. Driving this pin low puts the regulator into shutdown mode. This pin must not be left unconnected.", 6 GND (power) "Ground", 7 SS (in) "Soft-Start pin. A capacitor connected on this pin to ground sets the start-up time. If this pin is left unconnected, the regulator output soft-start ramp time is typically 200us.", 8 FB (in) "Feedback pin. The feedback connection to the center tap of an external resistor divider network that sets the output voltage. This pin must not be left floating.", 9 OUT (power) "Regulated output voltage. A small capacitor (total typical capacitance >= 2.2uF, ceramic) is needed from this pin to ground to assure stability.", 10 OUT (power) "Regulated output voltage. A small capacitor (total typical capacitance >= 2.2uF, ceramic) is needed from this pin to ground to assure stability.", 11 EP (power) "Should be soldered to the ground plane for increased thermal performance."

## TPS74701QDRCRQ1
designator U?
Single Output Automotive LDO, 500 mA, Adjustable 0.8 to 3.6 V Output, 0.8 to 5.5 V Input, with Programmable Soft Start, 10-pin SON (DRC), -40 to 125 degC, Green (RoHS & no Sb/Br); Manufacturer: Texas Instruments; PartNumber: TPS74701QDRCRQ1; Accuracy(%): 2; Iout(Max)(A): 0.5; Iq(Typ)(mA): 1; SubFamily: Single Channel LDO; Vdo(Typ)(mV): 50; Vin(Max)(V): 5.5; Vin(Min)(V): 0.8; Vout Adj(Max)(V): 3.6; DatasheetVersion: SBVS141A; PackageVersion: 4204102-3/L; PackageReference: DRC10-2400X1650TP; PackageDescription: 10-Pin Plastic Small Outline, Body 3 x 3 mm, Pitch 0.5 mm; Supplier 1: Digi-Key; Supplier Part Number 1: 296-27386-2-ND; Supplier 2: Digi-Key; Supplier Part Number 2: 296-27386-1-ND; Supplier 3: Digi-Key; Supplier Part Number 3: 296-27386-6-ND; Supplier 4: Newark; Supplier Part Number 4: 74R6647; Supplier 5: Mouser; Supplier Part Number 5: 595-TPS74701QDRCRQ1; Eco-Plan: Green (RoHS & no Sb/Br); Rating: Automotive; Vout Adj(Min)(V): 0.8; Mounting Technology: Surface Mount; ComponentLink1Description: Manufacturer URL; ComponentLink1URL: http://www.ti.com/; ComponentLink2Description: Datasheet; ComponentLink2URL: http://www.ti.com/general/docs/lit/getliterature.tsp?genericPartNumber=TPS74701-Q1&fileType=pdf; ComponentLink3Description: Package Specification; ComponentLink3URL: http://www.ti.com/litv/pdf/mpds117k; ComponentLink4Description: URL Link1; ComponentLink4URL: Samples URL:http://www.ti.com/product/tps74701-q1#samples
footprint TI-DRC10-2400X1650TP_V (SON, 10-Leads, Body 3x3mm, Pitch 0.5mm, Thermal Pad 3x1.65mm)
pins: 1 IN (power) "Input to the device.", 2 IN (power) "Input to the device.", 3 PG (hiz) "Power Good pin. An open-drain, active-high output that indicates the status of VOUT. When VOUT exceeds the PG trip threshold, the PG pin goes into a high-impedance state. When VOUT is below this threshold the pin is driven (See Datasheet)", 4 BIAS (power) "Bias input voltage for error amplifier, reference, and internal control circuits.", 5 EN (in) "Enable pin. Driving this pin high enables the regulator. Driving this pin low puts the regulator into shutdown mode. This pin must not be left unconnected.", 6 GND (power) "Ground", 7 SS (in) "Soft-Start pin. A capacitor connected on this pin to ground sets the start-up time. If this pin is left unconnected, the regulator output soft-start ramp time is typically 200us.", 8 FB (in) "Feedback pin. The feedback connection to the center tap of an external resistor divider network that sets the output voltage. This pin must not be left floating.", 9 OUT (power) "Regulated output voltage. A small capacitor (total typical capacitance >= 2.2uF, ceramic) is needed from this pin to ground to assure stability.", 10 OUT (power) "Regulated output voltage. A small capacitor (total typical capacitance >= 2.2uF, ceramic) is needed from this pin to ground to assure stability.", 11 EP (power) "Should be soldered to the ground plane for increased thermal performance."

## TPS74801DRCR
designator U?
Single Output LDO, 1.5 A, Adjustable 0.8 to 3.6 V Output, 0.8 to 5.5 V Input, with Programmable Soft Start, 10-pin SON (DRC), -40 to 125 degC, Green (RoHS & no Sb/Br); Manufacturer: Texas Instruments; PartNumber: TPS74801DRCR; Accuracy(%): 2; Iout(Max)(A): 1.5; Iq(Typ)(mA): 1; Power Good: TRUE; Rating: Catalog; SubFamily: Single Channel LDO; Vdo(Typ)(mV): 60; Vin(Max)(V): 5.5; Vin(Min)(V): 0.8; Vout Adj(Max)(V): 3.6; DatasheetVersion: SBVS074J; PackageVersion: 4204102-3/L; PackageReference: DRC10-2400X1650TP; PackageDescription: 10-Pin Plastic Small Outline, Body 3 x 3 mm, Pitch 0.5 mm; Supplier 1: Digi-Key; Supplier Part Number 1: 296-21563-2-ND; Supplier 2: Digi-Key; Supplier Part Number 2: 296-21563-1-ND; Supplier 3: Digi-Key; Supplier Part Number 3: 296-21563-6-ND; Supplier 4: Newark; Supplier Part Number 4: 30M1868; Supplier 5: Mouser; Supplier Part Number 5: 595-TPS74801DRCR; Eco-Plan: Green (RoHS & no Sb/Br); Vout Adj(Min)(V): 0.8; Mounting Technology: Surface Mount; ComponentLink1Description: Manufacturer URL; ComponentLink1URL: http://www.ti.com/; ComponentLink2Description: Datasheet; ComponentLink2URL: http://www.ti.com/general/docs/lit/getliterature.tsp?genericPartNumber=TPS74801&fileType=pdf; ComponentLink3Description: Package Specification; ComponentLink3URL: http://www.ti.com/litv/pdf/mpds117k; ComponentLink4Description: URL Link1; ComponentLink4URL: Samples URL:http://www.ti.com/product/tps74801#samples
footprint TI-DRC10-2400X1650TP_V (SON, 10-Leads, Body 3x3mm, Pitch 0.5mm, Thermal Pad 3x1.65mm)
pins: 1 IN (power) "Input to the device.", 2 IN (power) "Input to the device.", 3 PG (hiz) "Power Good pin. An open-drain, active-high output that indicates the status of VOUT. When VOUT exceeds the PG trip threshold, the PG pin goes into a high-impedance state. When VOUT is below this threshold the pin is driven (See Datasheet)", 4 BIAS (power) "Bias input voltage for error amplifier, reference, and internal control circuits.", 5 EN (in) "Enable pin. Driving this pin high enables the regulator. Driving this pin low puts the regulator into shutdown mode. This pin must not be left unconnected.", 6 GND (power) "Ground", 7 SS (in) "Soft-Start pin. A capacitor connected on this pin to ground sets the start-up time. If this pin is left unconnected, the regulator output soft-start ramp time is typically 200us.", 8 FB (in) "Feedback pin. The feedback connection to the center tap of an external resistor divider network that sets the output voltage. This pin must not be left floating.", 9 OUT (power) "Regulated output voltage. A small capacitor (total typical capacitance >= 2.2uF, ceramic) is needed from this pin to ground to assure stability.", 10 OUT (power) "Regulated output voltage. A small capacitor (total typical capacitance >= 2.2uF, ceramic) is needed from this pin to ground to assure stability.", 11 EP (power) "Should be soldered to the ground plane for increased thermal performance."